# Altium footprint library DBQ16-L.PcbLib: 1 footprints
Each footprint in its own frame and in the unit in brackets; x right, y up, seen from the top. Pads: shape width x height; smd on the part's side, far side on the other; paste and mask are expansions set on the pad; w line width, h text height; cw(c..) or ccw(c..) is an arc to the next point about the centre after c.
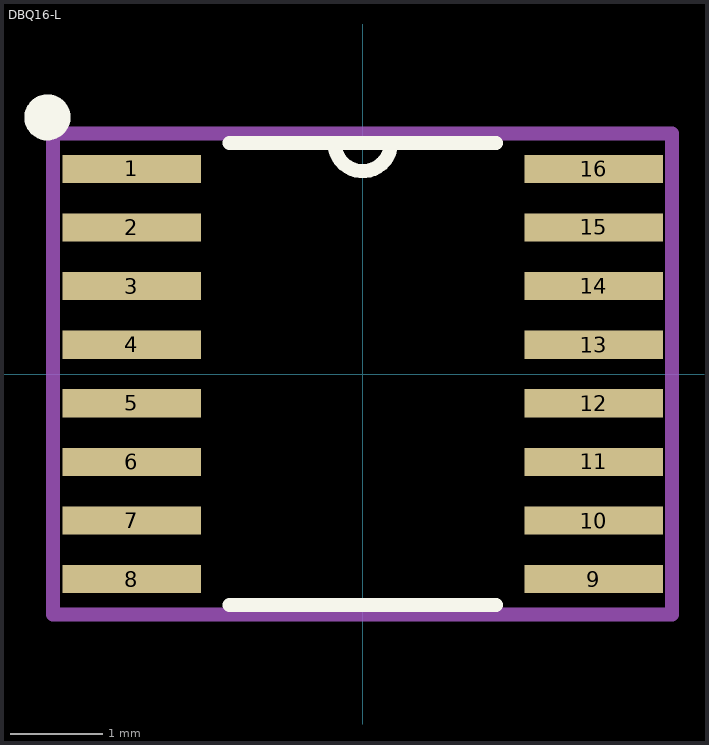
[diagram p0: the footprint, top view; thin cyan lines are the x and y axes]

## DBQ16-L [mil]
pads (16):
  rect 59x12 smd: 1(-98.5,87.5) 2(-98.5,62.5) 3(-98.5,37.5) 4(-98.5,12.5) 5(-98.5,-12.5) 6(-98.5,-37.5) 7(-98.5,-62.5) 8(-98.5,-87.5) 9(98.5,-87.5) 10(98.5,-62.5) 11(98.5,-37.5) 12(98.5,-12.5) 13(98.5,12.5) 14(98.5,37.5) 15(98.5,62.5) 16(98.5,87.5)
Top Overlay:
  circle w9.84: c-134.49,109.46 r4.92
  lines w6: -56.89,-98.5 56.89,-98.5 ; -56.89,98.5 56.89,98.5 ; -12,98.5 ccw(c0,98.5) 12,98.5
Mechanical 13:
  lines w0: -12,98.5 ccw(c0,98.5) 12,98.5
Mechanical 15:
  lines w6: -132,-102.5 -132,102.5 132,102.5 132,-102.5 -132,-102.5
3D body "DBQ0016A.stp": height 63.87, standoff -0.13, extent -117.56,-96 119.56,97